# EAGLE library part 7508110151 (library WE-OLTI)
WE-OLTI Offline Flyback Transformers Characteristics Nominal input voltage: 85–265 VAC (120–375 VDC) Small size Low leakage inductance Multiple-output options Operating temperature: −40 °C to +125 °C Isolation Voltage: 2 kVAC to 5 kVAC Options for fixed frequency or quasi-resonant mode operation Most products meet reinforced insulation Applications Industrial controls USB chargers Utility metering devices Process controls Factory automation Security systems Garage door opener auxiliary supplies Home appliances Especially designed for several ICs from Texas Instruments <https://www.we-online.com/components/media/o814034v209%20UtOLTI%20Group%20CGI.jpg> Details see: www.we-online.com/en/components/products/WE-OLTI <www.we-online.com/catalog/WE-OLTI/?utm_source=eagle_model&utm_medium=description_link&utm_campaign=eisos_eagle> Created by Ella Wu 2025-02-06 2025 (C) Wurth Elektronik
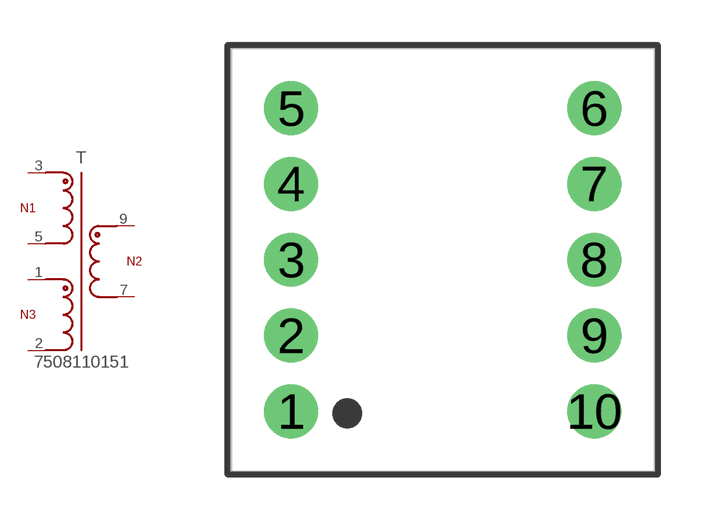
[diagram p1: symbol with the pads of WE-OLTI_EP13_L14.22W14.22H12.7; footprint WE-OLTI_EP13_L14.22W14.22H12.7]

Designator prefix T

## 7508110151 (DATASHEET-URL: https://www.we-online.com/redexpert/spec/7508110151?ae; FSWITCH: 70kHz; HEIGHT: 12.7mm; IOUT1: 1000mA; ISAT: 0.425A; L: 1500uH; LENGTH: 14.22mm; MOUNT: THT; N: 15.42:1:3.14; PART-NUMBER: 7508110151; SIZE: EP13; VALUE: 1500uH; VAUX: 15V; VIN: 85 - 265 V (AC); VOUT1: 5V; VT: 4000V(AC); WIDTH: 14.22mm)  [WE-OLTI_EP13_L14.22W14.22H12.7]
1  A1  pas
2  A2  pas
3  P1  pas
5  P2  pas
7  S2  pas
9  S1  pas

## Footprint WE-OLTI_EP13_L14.22W14.22H12.7 (pad centres in mm)
WE-OLTI Offline Flyback Transformers Size: EP13,THT,10pins LXWXH=14.22X14.22X12.7mm Bobbin: 070-4821
drill 1.2: 1 -5.08,-5.08; 2 -5.08,-2.54; 3 -5.08,0; 4 -5.08,2.54; 5 -5.08,5.08; 6 5.08,5.08; 7 5.08,2.54; 8 5.08,0; 9 5.08,-2.54; 10 5.08,-5.08